# Altium footprint library CustomLibrary.PcbLib: 25 footprints (part 2 of 2)
Each footprint in its own frame and in the unit in brackets; x right, y up, seen from the top. Pads: shape width x height; smd on the part's side, far side on the other; paste and mask are expansions set on the pad; w line width, h text height; cw(c..) or ccw(c..) is an arc to the next point about the centre after c.
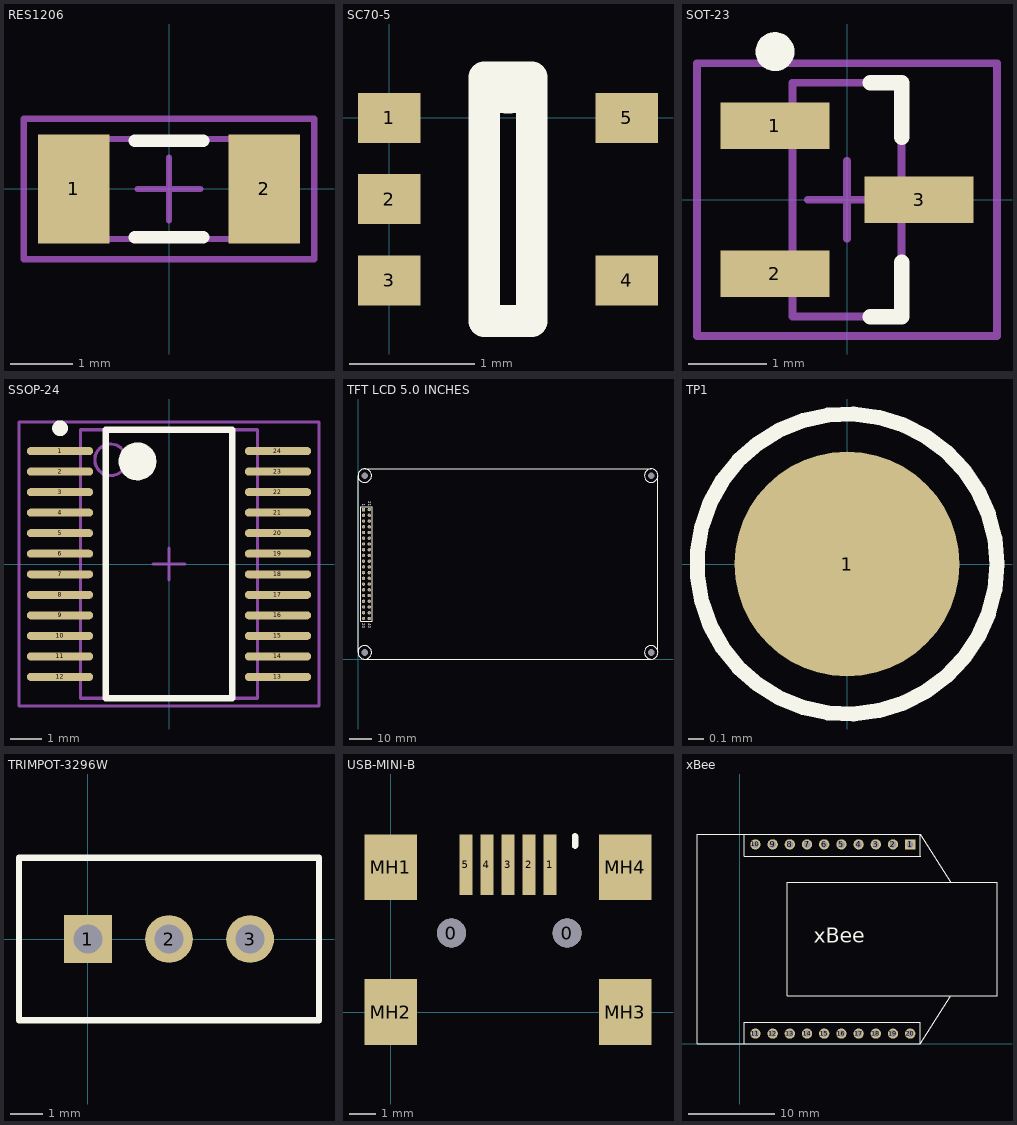
[diagram p1: the footprints below, top view; thin cyan lines are the x and y axes]

## RES1206 [mm] "Chip Resistor, 2-Leads, Body 3,1x1,6mm, IPC Medium Density"
height 0.55
pads (2):
  rect 1.15x1.75 smd: 1(-1.525,0) 2(1.525,0)
Top Overlay:
  lines w0.2: -0.55,-0.775 0.55,-0.775 ; -0.55,0.775 0.55,0.775
Mechanical 13:
  lines w0.1: -1.6,-0.8 1.6,-0.8 1.6,0.8 -1.6,0.8 -1.6,-0.8
Mechanical 15:
  lines w0.1: -0.5,0 0.5,0 ; 0,-0.5 0,0.5 ; -2.325,-1.125 2.325,-1.125 2.325,1.125 -2.325,1.125 -2.325,-1.125
3D body: height 0.55, standoff 0, extent -1.6,-0.8 1.6,0.8

## SC70-5 [mm]
pads (5):
  rect 0.5x0.4 smd: 1(0,0) 2(0,-0.65) 3(0,-1.3) 4(1.9,-1.3) 5(1.9,0)
Top Overlay:
  lines w0.254: 0.761,-1.625 1.139,-1.625 1.139,0.325 0.787,0.325 ccw(c0.95,0.325) 1.112,0.325 0.761,0.325 0.761,-1.625

## SOT-23 [mm] "SOT23, 3-Leads, Body 3,0x2,6mm (max), Pitch 0,95mm, IPC Medium Density"
height 1.1
pads (3):
  rect 1.4x0.6 smd: 1(-0.925,0.95) 2(-0.925,-0.95) 3(0.925,0)
Top Overlay:
  circle w0.25: c-0.925,1.9 r0.125
  lines w0.2: 0.3,-1.5 0.7,-1.5 0.7,-0.8 ; 0.3,1.5 0.7,1.5 0.7,0.8
Mechanical 13:
  lines w0.1: -0.7,-1.5 0.7,-1.5 0.7,1.5 -0.7,1.5 -0.7,-1.5
Mechanical 15:
  lines w0.1: -0.5,0 0.5,0 ; 0,-0.5 0,0.5 ; -1.925,-1.75 1.925,-1.75 1.925,1.75 -1.925,1.75 -1.925,-1.75
3D body: height 1.1, standoff 0.05, extent -0.7,-1.5 0.7,1.5

## SSOP-24 [mm] "SOP, 24-Leads, Body 8,5x5,6mm (max), Pitch 0,65mm, IPC Medium Density"
height 2
pads (24):
  oval 2.1x0.254 smd: 1(-3.45,3.575) 2(-3.45,2.925) 3(-3.45,2.275) 4(-3.45,1.625) 5(-3.45,0.975) 6(-3.45,0.325) 7(-3.45,-0.325) 8(-3.45,-0.975) 9(-3.45,-1.625) 10(-3.45,-2.275) 11(-3.45,-2.925) 12(-3.45,-3.575) 13(3.45,-3.575) 14(3.45,-2.925) 15(3.45,-2.275) 16(3.45,-1.625) 17(3.45,-0.975) 18(3.45,-0.325) 19(3.45,0.325) 20(3.45,0.975) 21(3.45,1.625) 22(3.45,2.275) 23(3.45,2.925) 24(3.45,3.575)
Top Overlay:
  circle w0.6: c-1,3.25 r0.3
  circle w0.25: c-3.45,4.3 r0.125
  lines w0.2: -2,-4.25 2,-4.25 2,4.25 -2,4.25 -2,-4.25
Mechanical 13:
  circle w0.1: c-1.85,3.3 r0.5
  lines w0.1: -2.8,-4.25 2.8,-4.25 2.8,4.25 -2.8,4.25 -2.8,-4.25
Mechanical 15:
  lines w0.1: -0.5,0 0.5,0 ; 0,-0.5 0,0.5 ; -4.75,-4.5 4.75,-4.5 4.75,4.5 -4.75,4.5 -4.75,-4.5
3D body: height 2, standoff 0.05, extent -2.8,-4.25 2.8,4.25

## TFT LCD 5.0 INCHES [mm]
pads (44):
  round 1.2 hole 3 unplated: 0(3,81.35) 0(3,3) 0(130,3) 0(130,81.35)
  rect 1.5x1.5 hole 0.9: 1(2.464,66.294)
  round 1.5 hole 0.9: 2(2.464,63.754) 3(2.464,61.214) 4(2.464,58.674) 5(2.464,56.134) 6(2.464,53.594) 7(2.464,51.054) 8(2.464,48.514) 9(2.464,45.974) 10(2.464,43.434) 11(2.464,40.894) 12(2.464,38.354) 13(2.464,35.814) 14(2.464,33.274) 15(2.464,30.734) 16(2.464,28.194) 17(2.464,25.654) 18(2.464,23.114) 19(2.464,20.574) 20(2.464,18.034) 21(5.004,66.294) 22(5.004,63.754) 23(5.004,61.214) 24(5.004,58.674) 25(5.004,56.134) 26(5.004,53.594) 27(5.004,51.054) 28(5.004,48.514) 29(5.004,45.974) 30(5.004,43.434) 31(5.004,40.894) 32(5.004,38.354) 33(5.004,35.814) 34(5.004,33.274) 35(5.004,30.734) 36(5.004,28.194) 37(5.004,25.654) 38(5.004,23.114) 39(5.004,20.574) 40(5.004,18.034)
Top Overlay:
  circle w0.254: c130,3 r3
  circle w0.254: c130,81.35 r3
  circle w0.254: c3,3 r3
  circle w0.254: c3,81.35 r3
  lines w0.1: 0,2.997 0,81.382 ; 2.972,84.353 129.972,84.353 ; 2.997,0 130.023,0 ; 133,2.977 133,81.325
  lines w0.2: 1.194,16.764 1.194,67.564 6.183,67.564 6.274,67.473 6.274,16.764 1.194,16.764
  text "1" at 1.956,68.834 h1.27
  text "21" at 4.562,70.085 h1.27
  text "40" at 4.496,16.002 h1.27
  text "20" at 1.956,16.002 h1.27
3D body: height 8.4, standoff 0, extent 1.194,16.764 6.274,67.564
3D body: height 16.78, standoff 2.35, extent 0,0 133,84.35

## TP1 [mm]
pads (1):
  round 1.5 smd: 1(0,0)
Top Overlay:
  circle w0.1: c0,0 r1

## TRIMPOT-3296W [mm]
height 10
pads (3):
  rect 1.5x1.5 hole 0.9: 1(0,0)
  round 1.5 hole 0.9: 2(2.54,0) 3(5.08,0)
Top Overlay:
  lines w0.2: -2.159,-2.54 -2.159,2.54 7.239,2.54 7.239,-2.54 -2.159,-2.54
3D body: height 11.96, standoff -5.54, extent -2.06,-2.413 7.14,2.387

## USB-MINI-B [mm] "USB MINI TYPE B connector"
height 4
pads (12):
  round 1.1 hole 1.1 unplated: 0(2.3,3) 0(6.7,3)
  rect 0.5x2.3 smd: 1(6.05,5.6) 2(5.25,5.6) 3(4.45,5.6) 4(3.65,5.6) 5(2.85,5.6)
  oval 0.254x0.6 on Top Overlay: 3(7,6.5)
  rect 2x2.5 smd: MH1(0,5.5) MH2(0,0) MH3(8.9,0) MH4(8.9,5.5)
3D body: height 4, standoff 0, extent 0.6,-2.7 8.4,6.5

## xBee [mm]
pads (20):
  rect 1.2x1.2 hole 0.8: 1(19.8,23.2)
  round 1.2 hole 0.8: 2(17.8,23.2) 3(15.8,23.2) 4(13.8,23.2) 5(11.8,23.2) 6(9.8,23.2) 7(7.8,23.2) 8(5.8,23.2) 9(3.8,23.2) 10(1.8,23.2) 11(1.8,1.2) 12(3.8,1.2) 13(5.8,1.2) 14(7.8,1.2) 15(9.8,1.2) 16(11.8,1.2) 17(13.8,1.2) 18(15.8,1.2) 19(17.8,1.2) 20(19.8,1.2)
Top Overlay:
  lines w0.1: 0.508,0 0.508,2.54 21,2.54 21,0 ; 0.508,24.384 0.508,21.844 20.828,21.844 21.01,21.844 21,21.844 21,24.4 ; 21,0 -5,0 -5,24.4 21,24.4 ; 21,0 24.5,5.6 ; 21,24.4 24.5,18.8 ; 24.5,5.6 5.5,5.6 5.5,18.8 24.5,18.8 ; 24.5,5.6 29.9,5.6 29.9,18.8 24.5,18.8
  text "xBee" at 8.585,11.201 h3
3D body: height 4.3, standoff 0, extent 0.508,0 20.955,2.54
3D body: height 4.3, standoff 0, extent 0.508,21.844 20.955,24.384
3D body: height 7.8, standoff 0.3, extent -0.356,0 27.544,24.5